# EAGLE library part REF102 (library harrison)
Texas Instruments REF102 +10V voltage reference
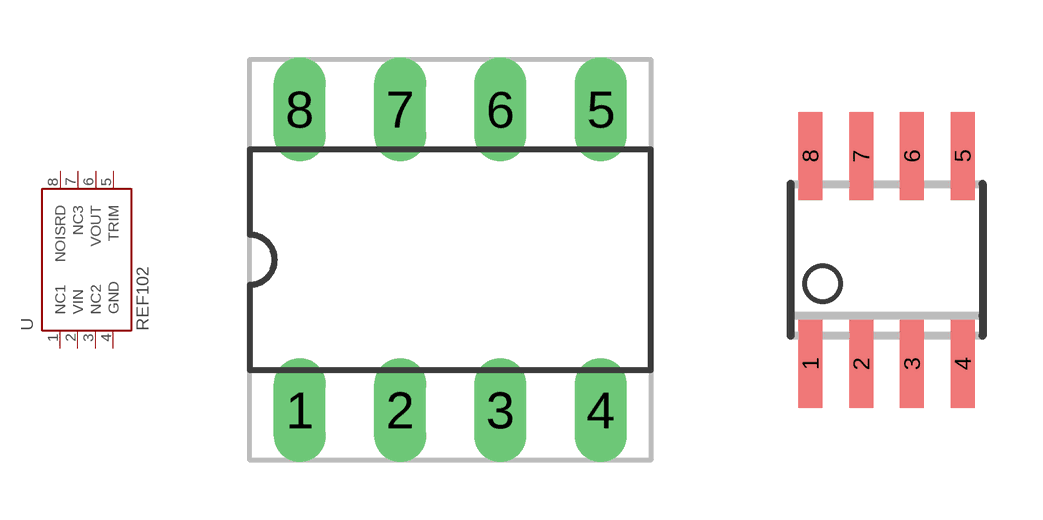
[diagram p87: symbol with the pads of DIL08; footprints DIL08, SOIC8]

Designator prefix U

## REF102-DIP  [DIL08]
1  NC1  nc
2  VIN  pwr
3  NC2  nc
4  GND  pwr
5  TRIM  in
6  VOUT  out
7  NC3  nc
8  NOISRD  pas

## REF102-SOIC  [SOIC8]
Pads as for DIL08

## Footprint DIL08 (pad centres in mm)
drill 0.813 long: 1 -3.81,-3.81; 2 -1.27,-3.81; 3 1.27,-3.81; 4 3.81,-3.81; 5 3.81,3.81; 6 1.27,3.81; 7 -1.27,3.81; 8 -3.81,3.81

## Footprint SOIC8 (pad centres in mm)
smd 0.6 x 2.2: 1 -1.905,-2.6; 2 -0.635,-2.6; 3 0.635,-2.6; 4 1.905,-2.6; 5 1.905,2.6; 6 0.635,2.6; 7 -0.635,2.6; 8 -1.905,2.6